# Altium integrated library MJD122.IntLib: 1 symbol
Pins are listed as number, name and electrical type; pins without a type are passive.

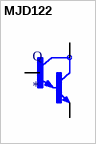
[diagram p0: symbol MJD122]

## MJD122
designator Q
Bipolar _BJT_ Transistor NPN - Darlington 100V 8A 4MHz 1.75W Surface Mount DPAK; MP: MJD122; MF: ON Semiconductor; Availability: Unavailable; Package: TO-252 ON Semiconductor; Value: *; SnapEDA_Link: https://www.snapeda.com/parts/MJD122/ON%20Semiconductor/view-part/4705673/?ref=snap; Price: None
footprint DPAK
pins: 1 B, 3 E, 4 C